# Altium footprint library BSPD_Conn_Pcb.PcbLib: 1 footprints
Each footprint in its own frame and in the unit in brackets; x right, y up, seen from the top. Pads: shape width x height; smd on the part's side, far side on the other; paste and mask are expansions set on the pad; w line width, h text height; cw(c..) or ccw(c..) is an arc to the next point about the centre after c.
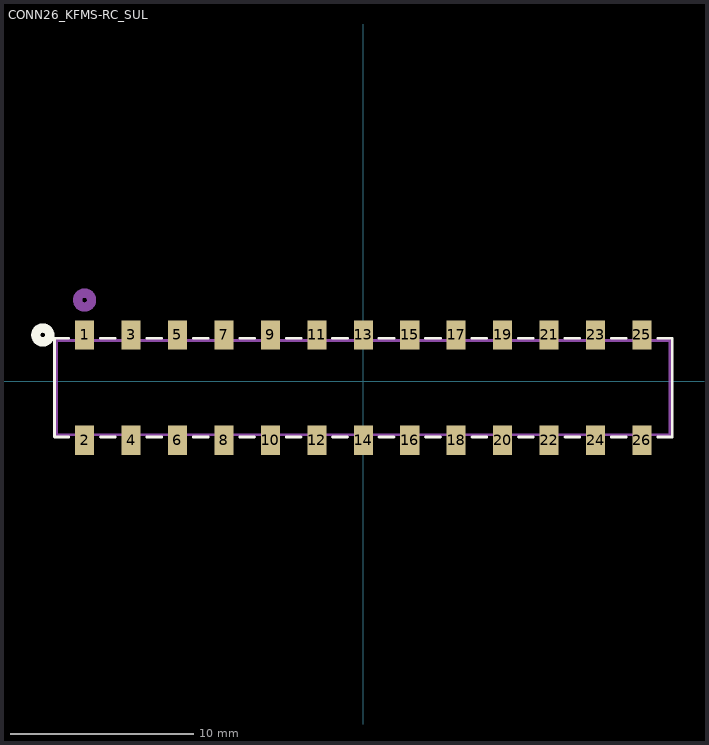
[diagram p0: the footprint, top view; thin cyan lines are the x and y axes]

## CONN26_KFMS-RC_SUL [mil]
pads (26):
  rect 41x63 smd: 1(-600,100) 2(-600,-126.77) 3(-500,100) 4(-500,-126.77) 5(-400,100) 6(-400,-126.77) 7(-300,100) 8(-300,-126.77) 9(-200,100) 10(-200,-126.77) 11(-100,100) 12(-100,-126.77) 13(0,100) 14(0,-126.77) 15(100,100) 16(100,-126.77) 17(200,100) 18(200,-126.77) 19(300,100) 20(300,-126.77) 21(400,100) 22(400,-126.77) 23(500,100) 24(500,-126.77) 25(600,100) 26(600,-126.77)
Top Overlay:
  lines w6: -634,-120 -665,-120 -665,93 -634,93 ; -566,-120 -534,-120 ; -566,93 -534,93 ; -466,-120 -434,-120 ; -466,93 -434,93 ; -366,-120 -334,-120 ; -366,93 -334,93 ; -266,-120 -234,-120 ; -266,93 -234,93 ; -166,-120 -134,-120 ; -166,93 -134,93 ; -66,-120 -34,-120 ; -66,93 -34,93 ; 34,-120 66,-120 ; 34,93 66,93 ; 134,-120 166,-120 ; 134,93 166,93 ; 234,-120 266,-120 ; 234,93 266,93 ; 334,-120 366,-120 ; 334,93 366,93 ; 434,-120 466,-120 ; 434,93 466,93 ; 534,-120 566,-120 ; 534,93 566,93 ; 634,-120 665,-120 665,93 634,93
  lines w20: -705,100 ccw(c-690,100) -675,100 ccw(c-690,100) -705,100
Bottom Overlay:
  lines w20: -705,100 ccw(c-690,100) -675,100 ccw(c-690,100) -705,100
Assembly Top:
  lines w6: -660,-115 660,-115 660,88 -660,88 -660,-115
  lines w20: -615,175 ccw(c-600,175) -585,175 ccw(c-600,175) -615,175
3D body "step_temp.STEP": height 295, standoff 0, extent -660,-135 660,135